# Altium schematic symbol library ADL5308ACCZ.SchLib: 1 symbol
Pins are listed as number, name and electrical type; pins without a type are passive.

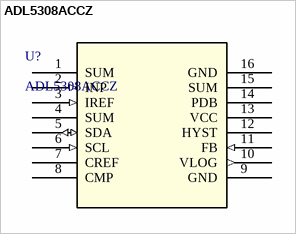
[diagram p0: symbol ADL5308ACCZ]

## ADL5308ACCZ
designator U?
Fast Response 188 dB Range (10 pA to 25 mA) Logarithmic Converter; Manufacturer_Name: Analog Devices Inc; Type: Linear; Copyright: Copyright (C) 2026 Ultra Librarian. All rights reserved.; Manufacturer_Part_Number: ADL5308ACCZ; RefDes: RefDes
footprint CC-14-4_ADI
pins: 1 SUM, 2 INP (in), 3 IREF (in), 4 SUM, 5 SDA (io), 6 SCL (in), 7 CREF (power), 8 CMP (power), 9 GND (power), 10 VLOG (out), 11 FB (in), 12 HYST, 13 VCC (power), 14 PDB (power), 15 SUM, 16 GND (power)